# Altium schematic symbol library Res_0805.SchLib: 2 symbols
Pins are listed as number, name and electrical type; pins without a type are passive.

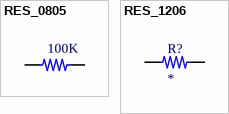
[diagram p0: symbols RES_0805 to RES_1206]

## RES_0805
designator 100K  (value not drawn)
thick Film Resistor, SMT, 100KOhms, 0805, 0,125W , ±1%; Legnth: 2mm; Power: 0.125W; Value: 100K; Caregory: Thick Film Resistor; Package: 0805; Width: 1.25mm; Tolerance: ± 1%; ComponentLink1Description: Datasheet link; ComponentLink1URL: extension://bfdogplmndidlpjfhoijckpakkdjkkil/pdf/viewer.html?file=https%3A%2F%2Fwww.we-online.com%2Fen%2Fcomponents%2Fproducts%2Fdatasheet%2F560050310002.pdf; ComponentLink2Description: Wedsite link; ComponentLink2URL: https://www.we-online.com/en/components/products/WRIS-KSKE#560050310002
footprint Resistor
pins: 1 , 2

## RES_1206
designator R?
50 mOhms ±1% 0.5W, 1/2W Chip Resistor 1206 (3216 Metric) Current Sense Thick Film; manufacturer: Würth Elektronik; caretory: Thick Film Resistor; Legnth: 3.1mm; Package: 1206; Width: 1.6mm; Tolerance: ±1%; Power: 0.5W; ComponentLink1Description: datasheet Link; ComponentLink1URL: extension://bfdogplmndidlpjfhoijckpakkdjkkil/pdf/viewer.html?file=https%3A%2F%2Fwww.we-online.com%2Fcomponents%2Fproducts%2Fdatasheet%2F560050332001.pdf
pins: 1 , 2